# EAGLE library part TJA1051 (library Cape)
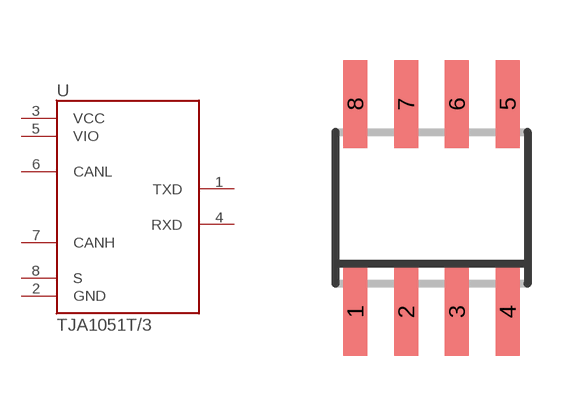
[diagram p0: symbol with the pads of SO8; footprint SO8]

Designator prefix -

## TJA1051  [SO8]
1  TXD
2  GND
3  VCC  in
4  RXD  out
5  VIO
6  CANL
7  CANH
8  S  in

## Footprint SO8 (pad centres in mm)
8-Lead Small Outline IC (SO-8) Source: http://www.analog.com/UploadedFiles/Data_Sheets/703465986AD8611_2_0.pdf
smd 0.6 x 2.2: 1 -1.905,-2.6; 2 -0.635,-2.6; 3 0.635,-2.6; 4 1.905,-2.6; 5 1.905,2.6; 6 0.635,2.6; 7 -0.635,2.6; 8 -1.905,2.6